# EAGLE library part BME280CHIP (library CanCubeSat)
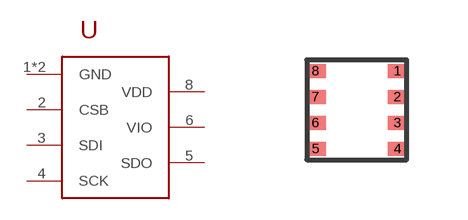
[diagram p30: symbol with the pads of BME280CHIP; footprint BME280CHIP]

Designator prefix -

## BME280CHIP  [BME280CHIP]
1  GND
2  CSB
3  SDI
4  SCK
5  SDO
6  VIO
7  GND
8  VDD

## Footprint BME280CHIP (pad centres in mm)
smd 0.5 x 0.35: 1 1.025,0.975; 2 1.025,0.325; 3 1.025,-0.325; 4 1.025,-0.975; 5 -1.025,-0.975; 6 -1.025,-0.325; 7 -1.025,0.325; 8 -1.025,0.975